# Altium footprint library MyUNO.PcbLib: 26 footprints (part 2 of 2)
Each footprint in its own frame and in the unit in brackets; x right, y up, seen from the top. Pads: shape width x height; smd on the part's side, far side on the other; paste and mask are expansions set on the pad; w line width, h text height; cw(c..) or ccw(c..) is an arc to the next point about the centre after c.
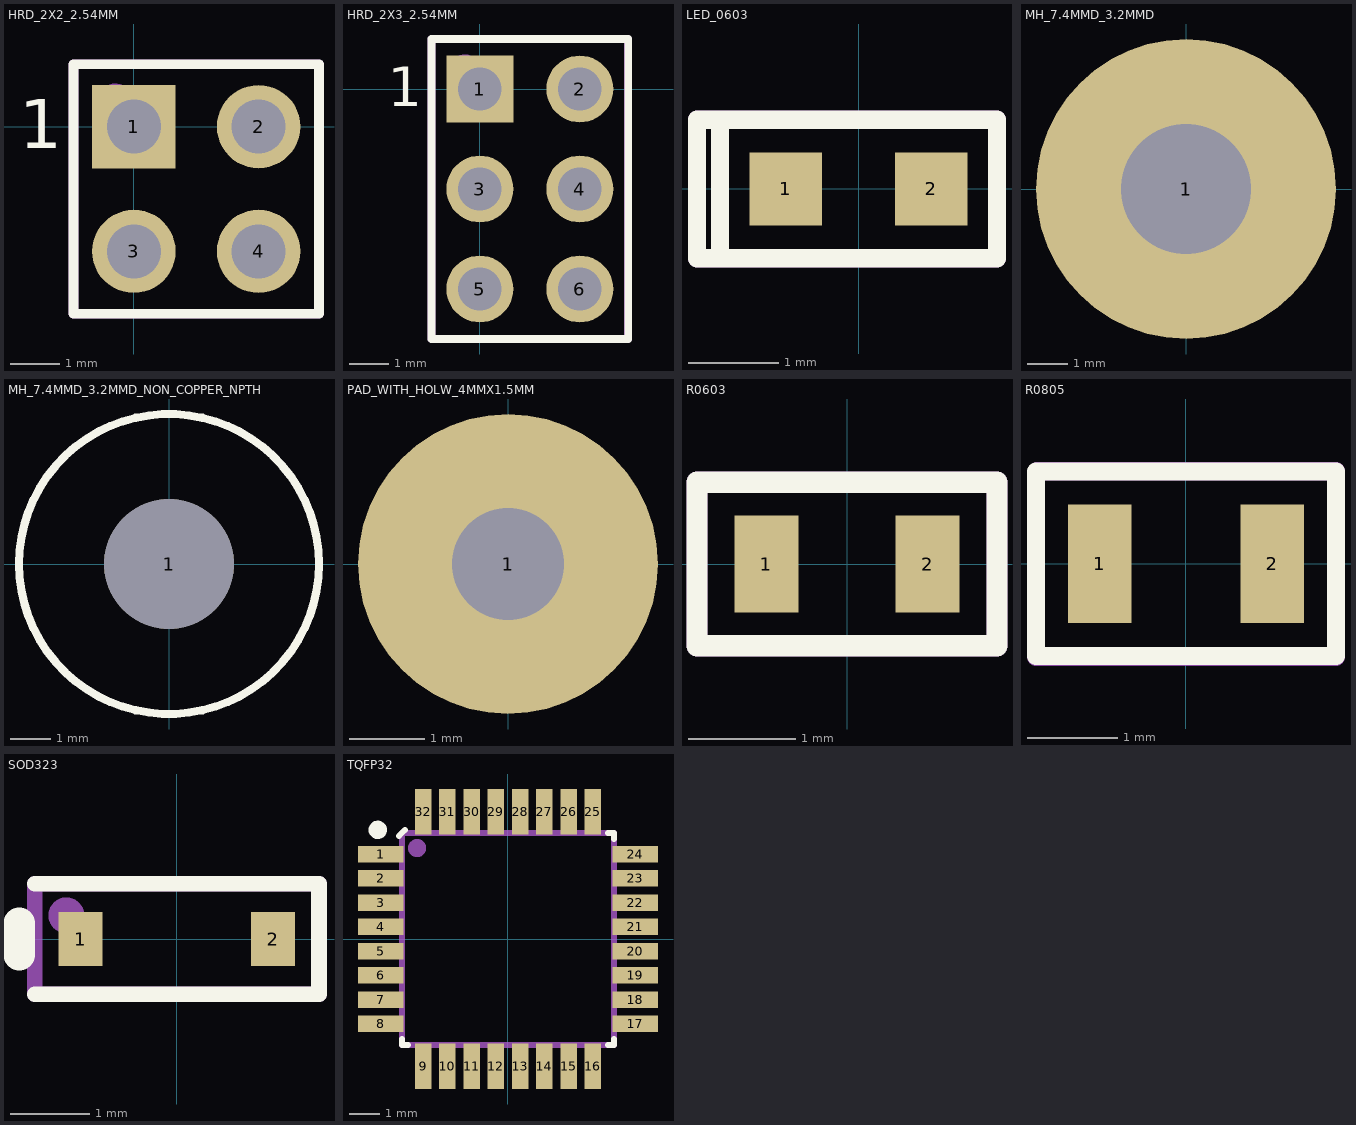
[diagram p1: the footprints below, top view; thin cyan lines are the x and y axes]

## HRD_2X2_2.54MM [mm]
pads (4):
  rect 1.7x1.7 hole 1.1: 1(0,0)
  round 1.7 hole 1.1: 2(2.54,0) 3(0,-2.54) 4(2.54,-2.54)
Top Overlay:
  lines w0.2: 0.635,1.27 3.77,1.27 3.77,-3.81 -1.23,-3.81 -1.23,1.27 1.905,1.27
  text "1" at -2.34,-0.435 h1
Mechanical 29:
  circle w0.381: c-0.381,0.508 r0.178
  lines w0.2: -1.23,-3.81 3.767,-3.81 3.767,1.27 -1.23,1.27 -1.23,-3.81
  text "'.Designator'" at 2.295,-3.353 h1.27
3D body "961204-6404-XX.stp": height 8.01, standoff -3.29, extent -1.23,-3.81 3.77,1.27

## HRD_2X3_2.54MM [mm]
pads (6):
  rect 1.7x1.7 hole 1.1: 1(0,0)
  round 1.7 hole 1.1: 2(2.54,0) 3(0,-2.54) 4(2.54,-2.54) 5(0,-5.08) 6(2.54,-5.08)
Top Overlay:
  lines w0.2: 0.635,1.27 3.77,1.27 3.77,-6.35 -1.23,-6.35 -1.23,1.27 1.905,1.27
  text "1" at -2.34,-0.435 h1
Mechanical 29:
  circle w0.381: c-0.381,0.508 r0.178
  lines w0.2: -1.23,-6.35 3.767,-6.35 3.767,1.27 -1.23,1.27 -1.23,-6.35
  text "'.Designator'" at 1.66,-5.893 h1.27
3D body "961206-6404-XX.stp": height 8.01, standoff -3.29, extent -1.23,-6.35 3.77,1.27

## LED_0603 [mm]
pads (2):
  rect 0.8x0.8 smd: 1(-0.8,0) 2(0.8,0)
Top Overlay:
  lines w0.2: -1.524,-0.762 -1.524,0.762 ; -1.524,-0.762 1.524,-0.762 1.524,0.762 -1.524,0.762 ; -1.524,-0.762 -1.778,-0.762 -1.778,0.762 -1.524,0.762
Mechanical 29:
  lines w0.2: -1.524,-0.762 -1.524,0.762 ; -1.778,-0.762 -1.778,0.762 1.524,0.762 1.524,-0.762 -1.778,-0.762
  text "'.Designator'" at -1.17,-0.241 h0.5
3D body "User Library-LED SMD 0603 super red.x_t": height 0.65, standoff 0, extent -0.85,-0.4 0.85,0.4
3D body: height 0.65, standoff 0, extent 0,0 0,0
3D body: height 0.66, standoff 0.5, extent -0.2,-0.2 0.2,0.2

## MH_7.4MMD_3.2MMD [mm] "MH_7.4MM_3.2MM"
pads (1):
  round 7.4 hole 3.2: 1(0,0)

## MH_7.4MMD_3.2MMD_NON_COPPER_NPTH [mm]
pads (1):
  round 3.2 hole 3.2 unplated: 1(0,0)
Top Overlay:
  circle w0.2: c0,0 r3.7

## PAD_WITH_HOLW_4MMX1.5MM [mm]
pads (1):
  round 4 hole 1.5: 1(0,0)

## R0603 [mm]
pads (2):
  rect 0.6x0.9 smd: 1(-0.75,0) 2(0.75,0)
Top Overlay:
  lines w0.2: -1.397,-0.762 -1.397,0.762 1.397,0.762 1.397,-0.762 -1.397,-0.762
Mechanical 29:
  lines w0.2: -1.397,-0.762 1.397,-0.762 1.397,0.762 -1.397,0.762 -1.397,-0.762
  text "'.Designator'" at -1.043,-0.335 h0.6
3D body "R0603.step": height 0.85, standoff 0.01, extent -0.8,-0.4 0.8,0.4

## R0805 [mm]
pads (2):
  rect 0.7x1.3 smd: 1(-0.95,0) 2(0.95,0)
Top Overlay:
  lines w0.2: -1.651,-1.016 1.651,-1.016 1.651,1.016 -1.651,1.016 -1.651,-1.016
Mechanical 29:
  lines w0.2: -1.65,-1.023 -1.65,1.009 -1.641,1.018 1.65,1.018 1.65,-1.023 -1.65,-1.023
  text "'.Designator'" at -1.1,-0.081 h0.5
3D body "User Library-CR2012-0805.step": height 0.61, standoff 0.01, extent -1,-0.625 1,0.625

## SOD323 [mil]
pads (2):
  rect 22x27 smd: 1(-48,0) 2(48,0)
Top Overlay:
  lines w7.87: -70.87,-27.56 70.87,-27.56 70.87,27.56 -70.87,27.56
  lines w15.75: -78.74,-7.87 -78.74,7.87
Mechanical 29:
  circle w10: c-55.12,11.81 r3.94
  lines w7.87: -70.87,-27.56 70.87,-27.56 70.87,27.56 -70.87,27.56 -70.87,-27.56
  text "'.Designator'" at -43.31,-9.19 h19.68
3D body "User Library-SOD323.step": height 39.48, standoff 0.5, extent -49.21,-24.6 49.22,24.61

## TQFP32 [mm]
pads (32):
  rect 1.5x0.55 smd mask+0.06: 1(-4.2,2.8) 2(-4.2,2) 3(-4.2,1.2) 4(-4.2,0.4) 5(-4.2,-0.4) 6(-4.2,-1.2) 7(-4.2,-2) 8(-4.2,-2.8) 17(4.2,-2.8) 18(4.2,-2) 19(4.2,-1.2) 20(4.2,-0.4) 21(4.2,0.4) 22(4.2,1.2) 23(4.2,2) 24(4.2,2.8)
  rect 0.55x1.5 smd mask+0.06: 9(-2.8,-4.2) 10(-2,-4.2) 11(-1.2,-4.2) 12(-0.4,-4.2) 13(0.4,-4.2) 14(1.2,-4.2) 15(2,-4.2) 16(2.8,-4.2) 25(2.8,4.2) 26(2,4.2) 27(1.2,4.2) 28(0.4,4.2) 29(-0.4,4.2) 30(-1.2,4.2) 31(-2,4.2) 32(-2.8,4.2)
Top Overlay:
  circle w0.295: c-4.3,3.6 r0.155
  lines w0.2: -3.6,3.4 -3.4,3.6 ; -3.5,-3.3 -3.5,-3.5 -3.3,-3.5 ; 3.3,-3.5 3.5,-3.5 3.5,-3.3 ; 3.3,3.5 3.5,3.5 3.5,3.3
Mechanical 29:
  circle w0.3: c-3,3 r0.15
  lines w0.2: -3.5,-3.5 3.5,-3.5 3.5,3.5 -3.5,3.5 -3.5,-3.5
  text "'.Designator'String" at -2.7,-1.1 h1.8
3D body "User Library-tqfp32.step": height 1.2, standoff 0, extent -4.599,-4.599 4.599,4.6